# EAGLE library part M74HC4040TTR (library SHC)
The M74HC4040 is an high speed CMOS 12 STAGE BINARY COUNTER fabricated with silicon gate C2MOS technology. A clear input is used to reset the counter to the all low level state. A high level on CLEAR accomplishes the reset function. A negative transition on the CLOCK input increments the counter by one. For M74HC4040 each division stage has an output; the final frequency is 1/4096 fIN. All inputs are equipped with protection circuits against static discharge and transient excess voltage.
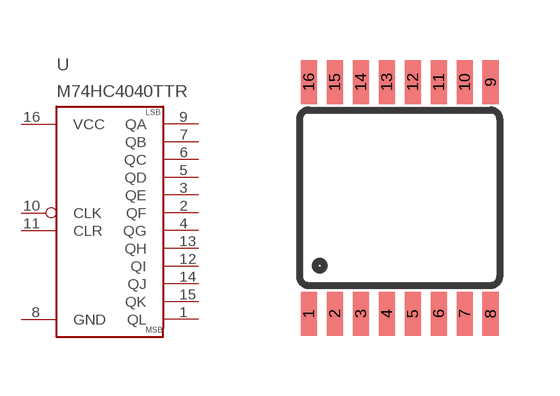
[diagram p26: symbol with the pads of TSOP-16; footprint TSOP-16]

Designator prefix -

## M74HC4040TTR  [TSOP-16]
1  QL
2  QF
3  QE
4  QG
5  QD
6  QC
7  QB
8  GND
9  QA
10  CLK
11  CLR
12  QI
13  QH
14  QJ
15  QK
16  VCC

## Footprint TSOP-16 (pad centres in mm)
smd 0.4 x 1.1: 1 -2.275,-2.9; 2 -1.625,-2.9; 3 -0.975,-2.9; 4 -0.325,-2.9; 5 0.325,-2.9; 6 0.975,-2.9; 7 1.625,-2.9; 8 2.275,-2.9; 9 2.275,2.9; 10 1.625,2.9; 11 0.975,2.9; 12 0.325,2.9; 13 -0.325,2.9; 14 -0.975,2.9; 15 -1.625,2.9; 16 -2.275,2.9